# Altium footprint library USON (DQA).PcbLib: 1 footprints
Each footprint in its own frame and in the unit in brackets; x right, y up, seen from the top. Pads: shape width x height; smd on the part's side, far side on the other; paste and mask are expansions set on the pad; w line width, h text height; cw(c..) or ccw(c..) is an arc to the next point about the centre after c.
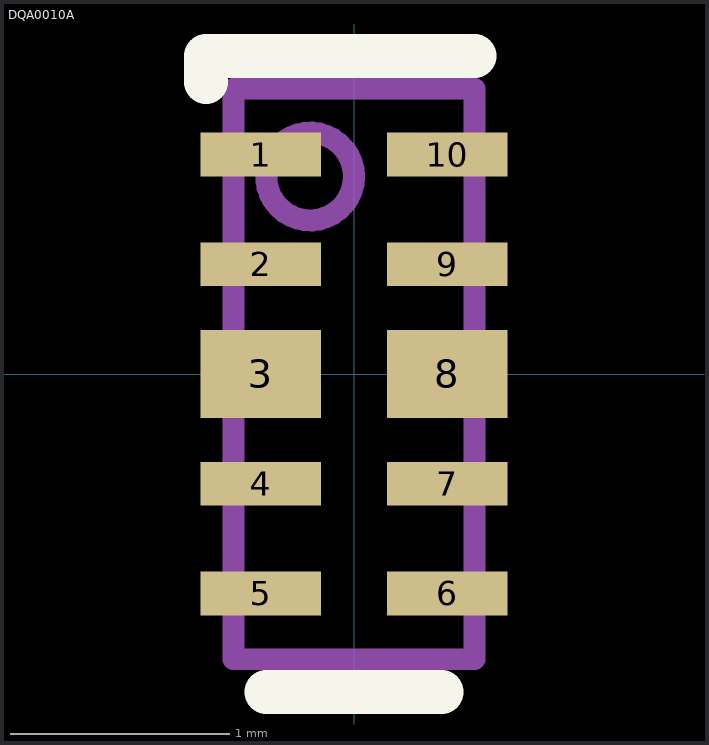
[diagram p0: the footprint, top view; thin cyan lines are the x and y axes]

## DQA0010A [mm]
pads (10):
  rect 0.55x0.2 smd paste+0 mask+0.051: 1(-0.425,1) 2(-0.425,0.5) 4(-0.425,-0.5) 5(-0.425,-1) 6(0.425,-1) 7(0.425,-0.5) 9(0.425,0.5) 10(0.425,1)
  rect 0.55x0.4 smd paste+0 mask+0.051: 3(-0.425,0) 8(0.425,0)
Top Overlay:
  lines w0.2: -0.675,1.33 -0.675,1.45 -0.55,1.45 0.55,1.45 ; -0.4,-1.45 0.4,-1.45
Mechanical 13:
  circle w0.1: c-0.2,0.9 r0.2
  lines w0.1: -0.55,-1.3 0.55,-1.3 0.55,1.3 -0.55,1.3 -0.55,-1.3
3D body "DQA0010A.stp": height 0.55, standoff 0, extent -0.5,-1.25 0.5,1.25